# Altium footprint library Connector.PcbLib: 58 footprints (part 4 of 4)
Each footprint in its own frame and in the unit in brackets; x right, y up, seen from the top. Pads: shape width x height; smd on the part's side, far side on the other; paste and mask are expansions set on the pad; w line width, h text height; cw(c..) or ccw(c..) is an arc to the next point about the centre after c.
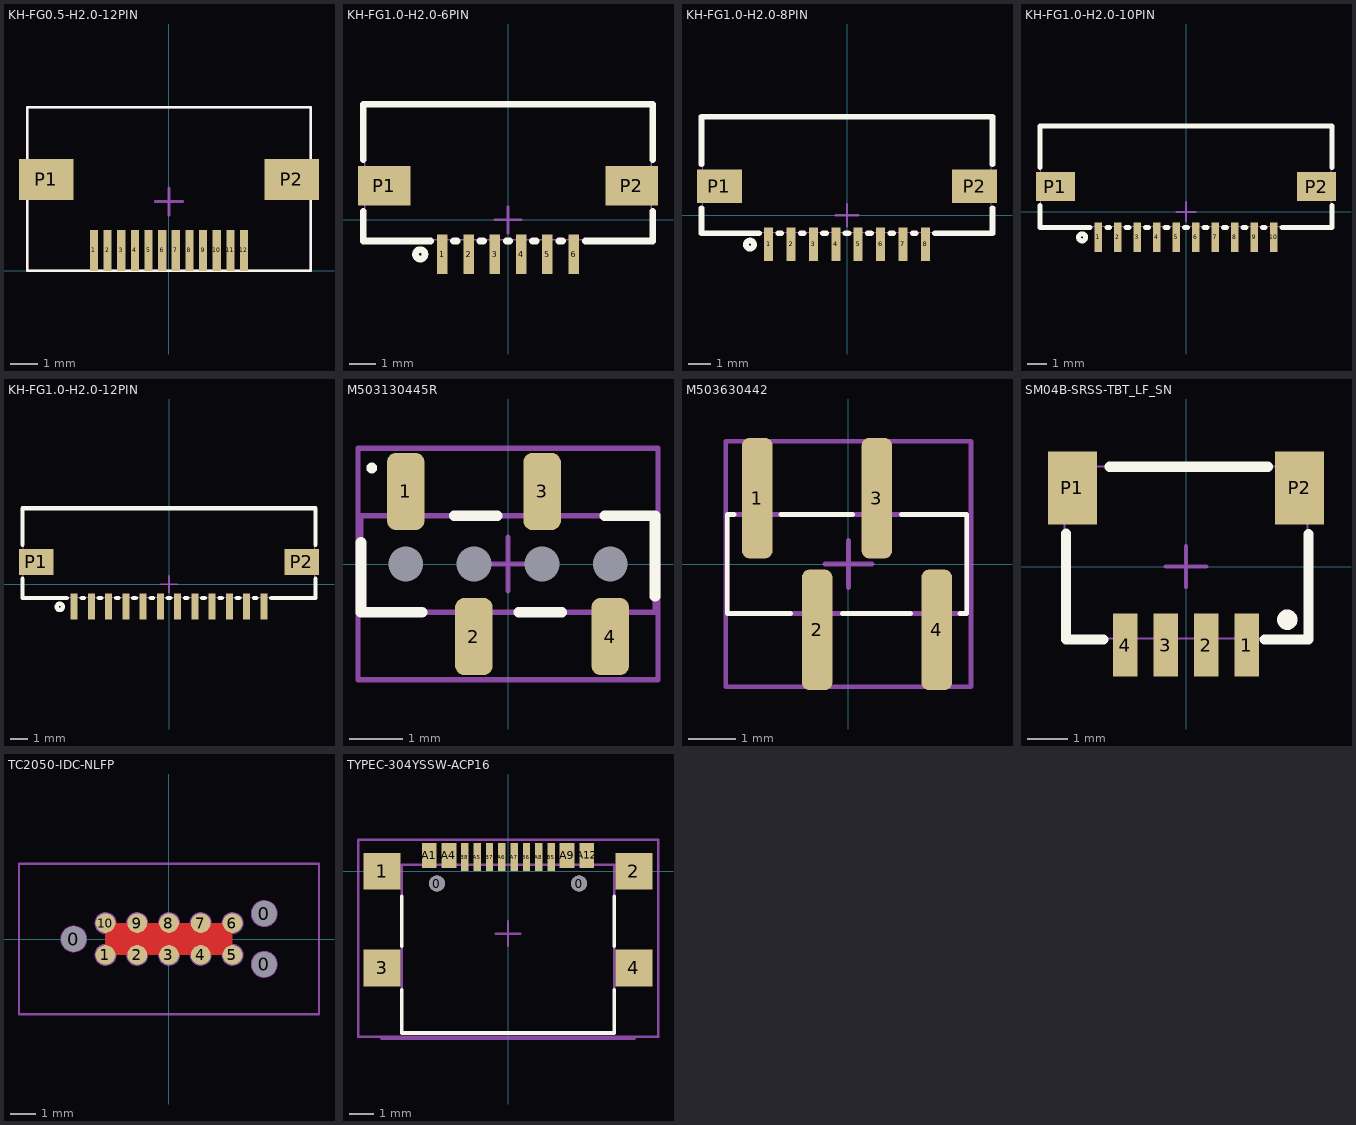
[diagram p3: the footprints below, top view; thin cyan lines are the x and y axes]

## KH-FG0.5-H2.0-12PIN [mm] "SMD,P=0.5mm"
pads (14):
  rect 0.3x1.5 smd: 1(-2.75,0.75) 2(-2.25,0.75) 3(-1.75,0.75) 4(-1.25,0.75) 5(-0.75,0.75) 6(-0.25,0.75) 7(0.25,0.75) 8(0.75,0.75) 9(1.25,0.75) 10(1.75,0.75) 11(2.25,0.75) 12(2.75,0.75)
  rect 2x1.5 smd: P1(-4.5,3.35) P2(4.5,3.35)
Top Overlay:
  lines w0.102: -5.2,0 -5.2,6 5.2,6 5.2,0 -5.2,0
Top Courtyard:
  lines w0.102: -5.2,0 -5.2,6 5.2,6 5.2,0 -5.2,0
Top Component Center:
  lines w0.1: -0.5,2.54 0.5,2.54 ; 0,2.04 0,3.04
3D body: height 2, standoff 0, extent -5.2,0.813 5.2,6
3D body: height 2.1, standoff 1, extent -3.556,2.794 3.556,6.198
3D body: height 0.2, standoff 0, extent -1.4,0 -1.1,0.9
3D body: height 0.2, standoff 0, extent 2.6,0 2.9,0.9
3D body: height 0.2, standoff 0, extent 2.1,0 2.4,0.9
3D body: height 0.2, standoff 0, extent 1.6,0 1.9,0.9
3D body: height 0.2, standoff 0, extent 1.1,0 1.4,0.9
3D body: height 0.2, standoff 0, extent -1.9,0 -1.6,0.9
3D body: height 0.2, standoff 0, extent -2.4,0 -2.1,0.9
3D body: height 0.2, standoff 0, extent -2.9,0 -2.6,0.9
3D body: height 0.2, standoff 0, extent 0.6,0 0.9,0.9
3D body: height 0.2, standoff 0, extent 0.1,0 0.4,0.9
3D body: height 0.2, standoff 0, extent -0.4,0 -0.1,0.9
3D body: height 0.2, standoff 0, extent -0.9,0 -0.6,0.9

## KH-FG1.0-H2.0-6PIN [mm]
pads (8):
  rect 0.4x1.5 smd paste+0 mask+0.05: 1(-2.5,-1.3) 2(-1.5,-1.3) 3(-0.5,-1.3) 4(0.5,-1.3) 5(1.5,-1.3) 6(2.5,-1.3)
  rect 2x1.5 smd paste+0 mask+0.05: P1(-4.7,1.3) P2(4.7,1.3)
Top Overlay:
  circle w0.254: c-3.335,-1.308 r0.18
  lines w0.254: -5.5,0.319 -5.5,-0.8 -2.931,-0.8 ; -5.5,2.281 -5.5,4.4 5.5,4.4 5.5,2.281 ; -2.069,-0.8 -1.931,-0.8 ; -1.069,-0.8 -0.931,-0.8 ; -0.069,-0.8 0.069,-0.8 ; 0.931,-0.8 1.069,-0.8 ; 1.931,-0.8 2.069,-0.8 ; 2.931,-0.8 5.5,-0.8 5.5,0.319
Top Courtyard:
  lines w0.051: -5.45,-0.75 5.45,-0.75 5.45,4.4 -5.45,4.4 -5.45,-0.75
Top Component Center:
  lines w0.1: -0.5,0 0.5,0 ; 0,-0.5 0,0.5
3D body: height 0.2, standoff 0, extent 0.35,-1.45 0.65,-0.55
3D body: height 0.2, standoff 0, extent 2.35,-1.45 2.65,-0.55
3D body: height 0.2, standoff 0, extent 1.35,-1.45 1.65,-0.55
3D body: height 0.2, standoff 0, extent -0.65,-1.45 -0.35,-0.55
3D body: height 0.2, standoff 0, extent -1.65,-1.45 -1.35,-0.55
3D body: height 0.2, standoff 0, extent -2.65,-1.45 -2.35,-0.55
3D body: height 2.1, standoff 1, extent -3.81,1.298 3.81,4.5
3D body: height 2, standoff 0, extent -5.5,-0.8 5.45,4.3

## KH-FG1.0-H2.0-8PIN [mm]
pads (10):
  rect 0.4x1.5 smd paste+0 mask+0.05: 1(-3.5,-1.3) 2(-2.5,-1.3) 3(-1.5,-1.3) 4(-0.5,-1.3) 5(0.5,-1.3) 6(1.5,-1.3) 7(2.5,-1.3) 8(3.5,-1.3)
  rect 2x1.5 smd paste+0 mask+0.05: P1(-5.7,1.3) P2(5.7,1.3)
Top Overlay:
  circle w0.254: c-4.335,-1.308 r0.18
  lines w0.254: -6.5,0.319 -6.5,-0.8 -3.931,-0.8 ; -6.5,2.281 -6.5,4.4 6.5,4.4 6.5,2.281 ; -3.069,-0.8 -2.931,-0.8 ; -2.069,-0.8 -1.931,-0.8 ; -1.069,-0.8 -0.931,-0.8 ; -0.069,-0.8 0.069,-0.8 ; 0.931,-0.8 1.069,-0.8 ; 1.931,-0.8 2.069,-0.8 ; 2.931,-0.8 3.069,-0.8 ; 3.931,-0.8 6.5,-0.8 6.5,0.319
Top Courtyard:
  lines w0.051: -6.45,-0.75 6.45,-0.75 6.45,4.4 -6.45,4.4 -6.45,-0.75
Top Component Center:
  lines w0.1: -0.5,0 0.5,0 ; 0,-0.5 0,0.5
3D body: height 0.2, standoff 0, extent -0.65,-1.45 -0.35,-0.55
3D body: height 0.2, standoff 0, extent 2.35,-1.45 2.65,-0.55
3D body: height 0.2, standoff 0, extent 1.35,-1.45 1.65,-0.55
3D body: height 0.2, standoff 0, extent 3.35,-1.45 3.65,-0.55
3D body: height 0.2, standoff 0, extent 0.35,-1.45 0.65,-0.55
3D body: height 0.2, standoff 0, extent -1.65,-1.45 -1.35,-0.55
3D body: height 0.2, standoff 0, extent -2.65,-1.45 -2.35,-0.55
3D body: height 0.2, standoff 0, extent -3.65,-1.45 -3.35,-0.55
3D body: height 2.1, standoff 1, extent -5.2,1.298 5.2,4.5
3D body: height 2, standoff 0, extent -6.5,-0.8 6.5,4.3

## KH-FG1.0-H2.0-10PIN [mm]
pads (12):
  rect 0.4x1.5 smd paste+0 mask+0.05: 1(-4.5,-1.3) 2(-3.5,-1.3) 3(-2.5,-1.3) 4(-1.5,-1.3) 5(-0.5,-1.3) 6(0.5,-1.3) 7(1.5,-1.3) 8(2.5,-1.3) 9(3.5,-1.3) 10(4.5,-1.3)
  rect 2x1.5 smd paste+0 mask+0.05: P1(-6.7,1.3) P2(6.7,1.3)
Top Overlay:
  circle w0.254: c-5.335,-1.308 r0.18
  lines w0.254: -7.5,0.319 -7.5,-0.8 -4.931,-0.8 ; -7.5,2.281 -7.5,4.4 7.5,4.4 7.5,2.281 ; -4.069,-0.8 -3.931,-0.8 ; -3.069,-0.8 -2.931,-0.8 ; -2.069,-0.8 -1.931,-0.8 ; -1.069,-0.8 -0.931,-0.8 ; -0.069,-0.8 0.069,-0.8 ; 0.931,-0.8 1.069,-0.8 ; 1.931,-0.8 2.069,-0.8 ; 2.931,-0.8 3.069,-0.8 ; 3.931,-0.8 4.069,-0.8 ; 4.931,-0.8 7.5,-0.8 7.5,0.319
Top Courtyard:
  lines w0.051: -7.45,-0.75 -7.45,4.4 7.45,4.4 7.45,-0.75 -7.45,-0.75
Top Component Center:
  lines w0.1: -0.5,0 0.5,0 ; 0,-0.5 0,0.5
3D body: height 0.2, standoff 0, extent 4.35,-1.45 4.65,-0.55
3D body: height 0.2, standoff 0, extent 3.35,-1.45 3.65,-0.55
3D body: height 0.2, standoff 0, extent -1.65,-1.45 -1.35,-0.55
3D body: height 0.2, standoff 0, extent 1.35,-1.45 1.65,-0.55
3D body: height 0.2, standoff 0, extent 0.35,-1.45 0.65,-0.55
3D body: height 0.2, standoff 0, extent 2.35,-1.45 2.65,-0.55
3D body: height 0.2, standoff 0, extent -0.65,-1.45 -0.35,-0.55
3D body: height 0.2, standoff 0, extent -2.65,-1.45 -2.35,-0.55
3D body: height 0.2, standoff 0, extent -3.65,-1.45 -3.35,-0.55
3D body: height 0.2, standoff 0, extent -4.65,-1.45 -4.35,-0.55
3D body: height 2.1, standoff 1, extent -5.2,1.298 5.2,4.5
3D body: height 2, standoff 0, extent -7.45,-0.8 7.45,4.3

## KH-FG1.0-H2.0-12PIN [mm]
pads (14):
  rect 0.4x1.5 smd paste+0 mask+0.05: 1(-5.5,-1.3) 2(-4.5,-1.3) 3(-3.5,-1.3) 4(-2.5,-1.3) 5(-1.5,-1.3) 6(-0.5,-1.3) 7(0.5,-1.3) 8(1.5,-1.3) 9(2.5,-1.3) 10(3.5,-1.3) 11(4.5,-1.3) 12(5.5,-1.3)
  rect 2x1.5 smd paste+0 mask+0.05: P1(-7.7,1.3) P2(7.7,1.3)
Top Overlay:
  circle w0.254: c-6.335,-1.308 r0.18
  lines w0.254: -8.5,0.319 -8.5,-0.8 -5.931,-0.8 ; -8.5,2.281 -8.5,4.4 8.5,4.4 8.5,2.281 ; -5.069,-0.8 -4.931,-0.8 ; -4.069,-0.8 -3.931,-0.8 ; -3.069,-0.8 -2.931,-0.8 ; -2.069,-0.8 -1.931,-0.8 ; -1.069,-0.8 -0.931,-0.8 ; -0.069,-0.8 0.069,-0.8 ; 0.931,-0.8 1.069,-0.8 ; 1.931,-0.8 2.069,-0.8 ; 2.931,-0.8 3.069,-0.8 ; 3.931,-0.8 4.069,-0.8 ; 4.931,-0.8 5.069,-0.8 ; 5.931,-0.8 8.5,-0.8 8.5,0.319
Top Courtyard:
  lines w0.051: -8.45,-0.75 -8.45,4.4 8.45,4.4 8.45,-0.75 -8.45,-0.75
Top Component Center:
  lines w0.1: -0.5,0 0.5,0 ; 0,-0.5 0,0.5
3D body: height 0.2, standoff 0, extent 5.35,-1.45 5.65,-0.55
3D body: height 0.2, standoff 0, extent 4.35,-1.45 4.65,-0.55
3D body: height 0.2, standoff 0, extent 3.35,-1.45 3.65,-0.55
3D body: height 0.2, standoff 0, extent 2.35,-1.45 2.65,-0.55
3D body: height 0.2, standoff 0, extent -2.65,-1.45 -2.35,-0.55
3D body: height 0.2, standoff 0, extent 0.35,-1.45 0.65,-0.55
3D body: height 0.2, standoff 0, extent -0.65,-1.45 -0.35,-0.55
3D body: height 0.2, standoff 0, extent 1.35,-1.45 1.65,-0.55
3D body: height 0.2, standoff 0, extent -1.65,-1.45 -1.35,-0.55
3D body: height 0.2, standoff 0, extent -3.65,-1.45 -3.35,-0.55
3D body: height 0.2, standoff 0, extent -4.65,-1.45 -4.35,-0.55
3D body: height 0.2, standoff 0, extent -5.65,-1.45 -5.35,-0.55
3D body: height 2.1, standoff 1, extent -5.2,1.298 5.2,4.5
3D body: height 2, standoff 0, extent -8.45,-0.8 8.45,4.3

## M503130445R [mm]
pads (8):
  rrect50% 0.7x1.44 smd: 1(-1.905,1.351) 2(-0.635,-1.351) 3(0.635,1.351) 4(1.905,-1.351)
  round 0 hole 0.65 unplated: MH1(-1.905,0) MH2(-0.635,0) MH3(0.635,0) MH4(1.905,0)
Top Overlay:
  lines w0.1: -2.54,1.738 cw(c-2.54,1.788) -2.54,1.838 cw(c-2.54,1.788) -2.54,1.738
  lines w0.2: -2.74,0.4 -2.74,-0.9 -1.6,-0.9 ; -1,0.9 -0.2,0.9 ; 0.2,-0.9 1,-0.9 ; 1.8,0.9 2.74,0.9 2.74,-0.6
Top Component Outline:
  lines w0.1: -2.74,-0.9 -2.74,0.9 2.74,0.9 2.74,-0.9 -2.74,-0.9
Top Courtyard:
  lines w0.102: -2.794,-2.159 2.794,-2.159 2.794,2.159 -2.794,2.159 -2.794,-2.159
Top Component Center:
  lines w0.1: -0.5,0 0.5,0 ; 0,-0.5 0,0.5
3D body "M50-3130445R.stp": height 2, standoff -0.1, extent -2.74,-1.549 2.74,1.549

## M503630442 [mm]
pads (4):
  rrect50% 0.65x2.56 smd: 1(-1.935,1.4) 2(-0.665,-1.4) 3(0.605,1.4) 4(1.875,-1.4)
Top Overlay:
  lines w0.1: -2.43,1.05 -2.57,1.05 -2.57,1 -2.57,-1.05 -1.53,-1.05 -1.23,-1.05 ; -1.43,1.05 0.095,1.05 ; -0.13,-1.05 1.32,-1.05 ; 1.12,1.05 2.51,1.05 2.51,-1.05 2.37,-1.05
Top Component Outline:
  lines w0.1: -2.57,-1.05 -2.57,1.05 2.51,1.05 2.51,-1.05 -2.57,-1.05
Top Courtyard:
  lines w0.1: -2.603,-2.603 2.603,-2.603 2.603,2.603 -2.603,2.603 -2.603,-2.603
Top Component Center:
  lines w0.1: -0.5,0 0.5,0 ; 0,-0.5 0,0.5
3D body "M50-3630442.STEP": height 4.5, standoff 0, extent -2.579,-2.5 2.503,2.5

## SM04B-SRSS-TBT_LF_SN [mm]
pads (6):
  rect 0.6x1.55 smd paste+0 mask+0.051: 1(1.5,-1.938) 2(0.5,-1.938) 3(-0.5,-1.938) 4(-1.5,-1.938)
  rect 1.2x1.8 smd paste+0 mask+0.051: P1(-2.8,1.938) P2(2.8,1.938)
Top Overlay:
  circle w0.254: c2.499,-1.312 r0.125
  lines w0.254: -2.96,0.807 -2.96,-1.8 -2.04,-1.8 ; -1.88,2.46 2.02,2.46 ; 1.94,-1.8 3.02,-1.8 3.02,0.8
Top Component Outline:
  region: 1.6,-2.455 1.4,-2.455 1.4,-1.755 1.6,-1.755
  region: -0.4,-2.455 -0.6,-2.455 -0.6,-1.755 -0.4,-1.755
  region: 0.6,-2.455 0.4,-2.455 0.4,-1.755 0.6,-1.755
  region: -1.4,-2.455 -1.6,-2.455 -1.6,-1.755 -1.4,-1.755
  lines w0.051: -3,-1.78 -3,2.47 3,2.47 3,-1.78 -3,-1.78
Top Component Center:
  lines w0.1: -0.5,0 0.5,0 ; 0,-0.5 0,0.5
3D body "SM04B-SRSS-TB.STEP": height 2.96, standoff 0, extent -3,-2.355 3,2.595

## TC2050-IDC-NLFP [mil]
pads (13):
  round 39 hole 39 unplated mask+3: 0(-150,0) 0(150,-40) 0(150,40)
  round 31 smd paste-196.85: 1(-100,-25) 2(-50,-25) 3(0,-25) 4(50,-25) 5(100,-25) 6(100,25) 7(50,25) 8(0,25) 9(-50,25) 10(-100,25)
Top Layer:
  pour cut-out: -100,25 -100,-25 100,-25 100,25
Top Courtyard:
  lines w3.94: -236.22,-118.11 236.22,-118.11 236.22,118.11 -236.22,118.11 -236.22,-118.11
Top Component Center:
  circle w3.94: c150,-39.98 r19.26
  circle w3.94: c150,39.98 r19.26
  circle w3.94: c-150,0 r19.26
  lines w3.94: -19.68,0 19.69,0 ; 0,-19.68 0,19.69
Bottom Assembly:
  circle w3.94: c-150,0 r19.26
  circle w3.94: c150,39.98 r19.26
  circle w3.94: c150,-39.98 r19.26
  circle w3.94: c100,24.99 r15.45
  circle w3.94: c100,-24.99 r15.45
  circle w3.94: c50,-24.99 r15.45
  circle w3.94: c50,24.99 r15.45
  circle w3.94: c-50,24.99 r15.45
  circle w3.94: c0,24.99 r15.45
  circle w3.94: c0,-24.99 r15.45
  circle w3.94: c-50,-24.99 r15.45
  circle w3.94: c-100,-24.99 r15.45
  circle w3.94: c-100,24.99 r15.45

## TYPEC-304YSSW-ACP16 [mm] "USB Type-C"
pads (18):
  round 0.65 hole 0.65 unplated: 0(-2.89,-0.5) 0(2.89,-0.5)
  rect 1.5x1.5 smd: 1(-5.12,0) 2(5.12,0) 3(-5.12,-3.93) 4(5.12,-3.93)
  rect 0.6x1.016 smd: A1(-3.2,0.642) A4(-2.4,0.642) A9(2.4,0.642) A12(3.2,0.642)
  rect 0.3x1.15 smd: A5(-1.25,0.575) A6(-0.25,0.575) A7(0.25,0.575) A8(1.25,0.575) B5(1.75,0.575) B6(0.75,0.575) B7(-0.75,0.575) B8(-1.75,0.575)
Top Overlay:
  lines w0.152: -4.318,-4.826 -4.318,-6.58 4.318,-6.58 4.318,-4.826 ; -4.318,-3.048 -4.318,-1.016 ; 4.318,-3.048 4.318,-1.016
Top Component Outline:
  lines w0.102: -4.318,-6.58 -4.318,0.254 4.318,0.254 4.318,-6.58 -4.318,-6.58
Top Courtyard:
  lines w0.102: -6.096,-6.731 6.096,-6.731 6.096,1.27 -6.096,1.27 -6.096,-6.731
  lines w0.152: -5.12,-6.78 5.12,-6.78
Top Component Center:
  lines w0.1: -0.5,-2.54 0.5,-2.54 ; 0,-3.04 0,-2.04
3D body: height 2.54, standoff 0, extent -4.318,-6.604 4.318,0.254